# Altium footprint library TwoLayerDriverPcbLib.PcbLib: 13 footprints
Each footprint in its own frame and in the unit in brackets; x right, y up, seen from the top. Pads: shape width x height; smd on the part's side, far side on the other; paste and mask are expansions set on the pad; w line width, h text height; cw(c..) or ccw(c..) is an arc to the next point about the centre after c.
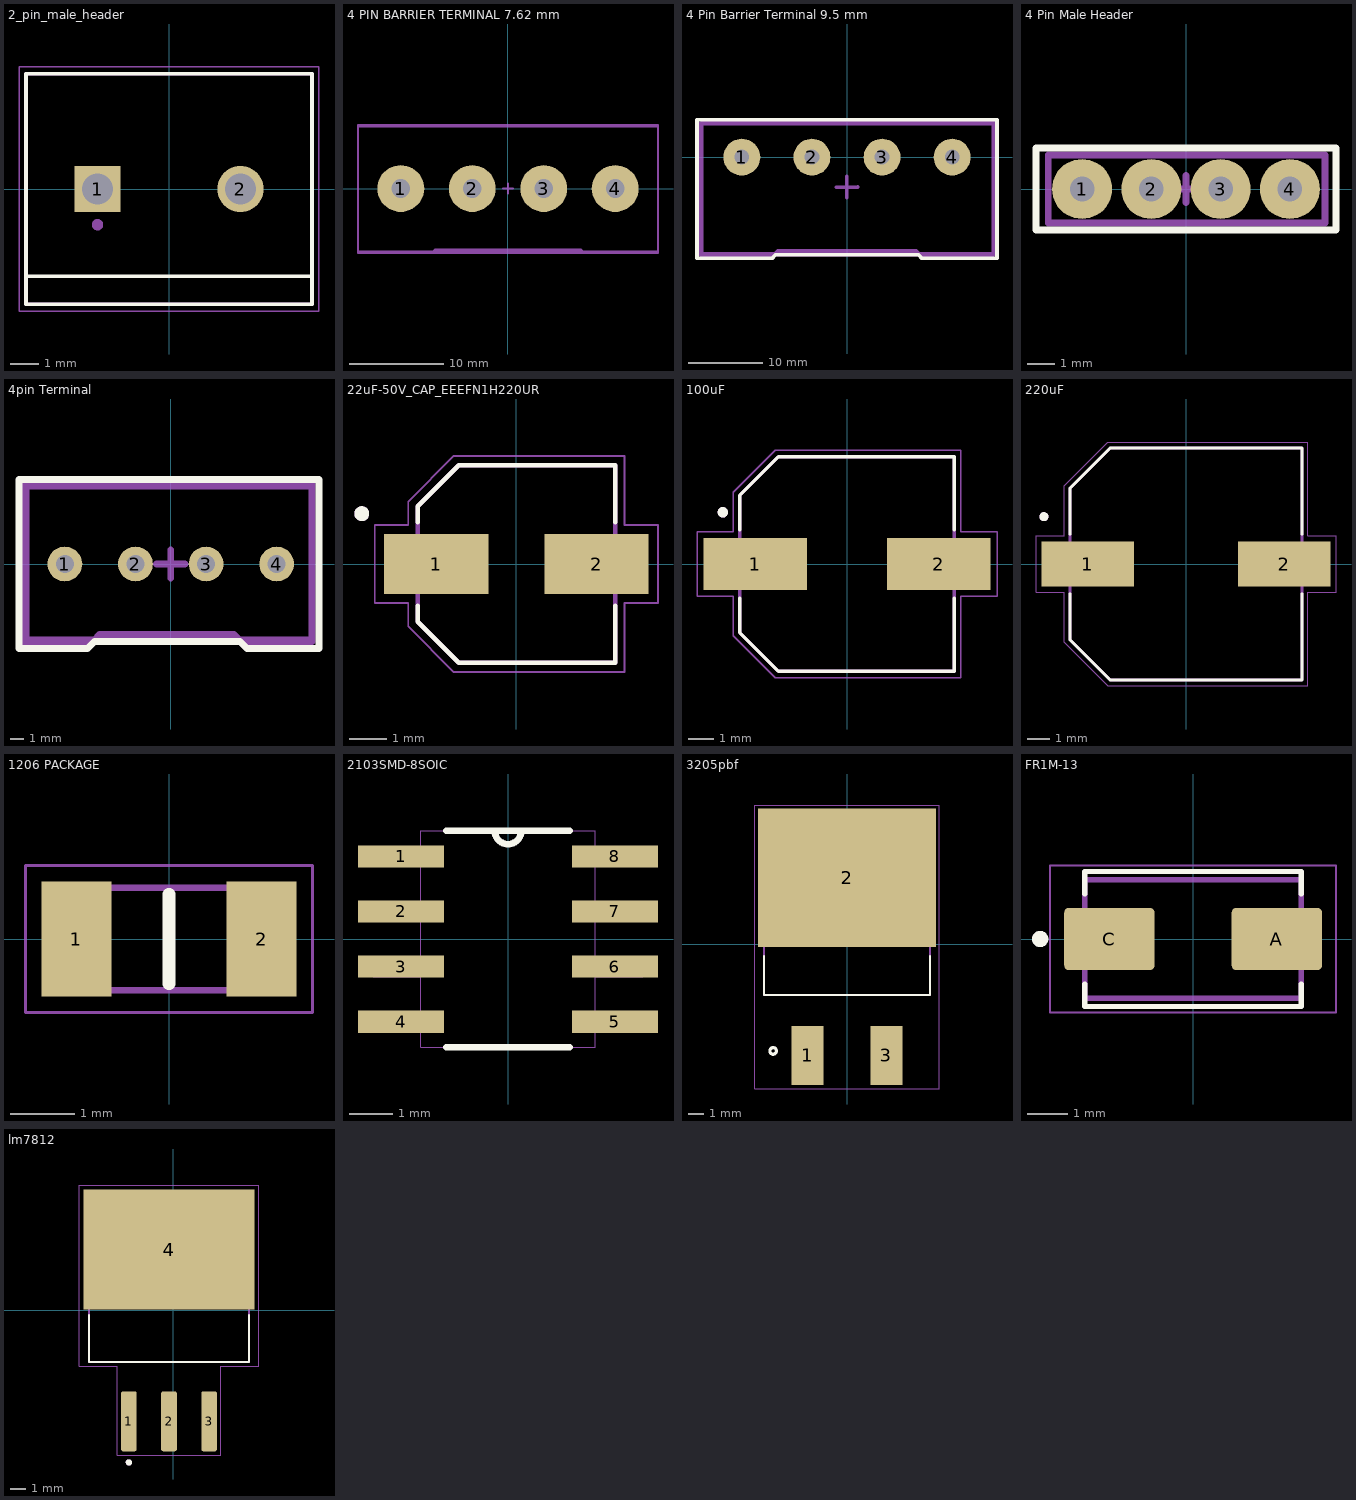
[diagram p0: the footprints below, top view; thin cyan lines are the x and y axes]

## 2_pin_male_header [mm] "TE_282837-2"
pads (2):
  rect 1.65x1.65 hole 1.1: 1(-2.54,0)
  round 1.65 hole 1.1: 2(2.54,0)
Top Overlay:
  lines w0.127: -5.08,-3.1 -5.08,-4.1 5.08,-4.1 5.08,-3.1 ; -5.08,-3.1 -5.08,4.1 5.08,4.1 5.08,-3.1 ; -5.08,-3.1 5.08,-3.1
Mechanical 13:
  circle w0.2: c-2.54,-1.27 r0.1
  lines w0.127: -5.08,-4.1 5.08,-4.1 5.08,4.1 -5.08,4.1 -5.08,-4.1
Mechanical 15:
  lines w0.05: -5.33,-4.35 5.33,-4.35 5.33,4.35 -5.33,4.35 -5.33,-4.35
3D body "2_PÝ_MALE_HEADER.STEP": height 9.79, standoff -3.71, extent -5.38,-4.136 5.38,4.064

## 4 PIN BARRIER TERMINAL 7.62 mm [mm]
pads (4):
  round 5 hole 2 mask+0.102: 1(-11.43,0) 2(-3.81,0) 3(3.81,0) 4(11.43,0)
Top 3D Body:
  lines w0.254: -16,-6.75 -16,6.75 16,6.75 16,-6.75 8,-6.75 7.75,-6.5 -7.75,-6.5 -8,-6.75 -16,-6.75
Top Component Center:
  lines w0.254: -0.5,0 0.5,0 ; 0,-0.5 0,0.5 ; -16,-6.75 -8,-6.75 8,-6.75 16,-6.75 16,6.75 -16,6.75 -16,-6.75
Top Designator:
  lines w0.254: -15.997,-6.845 -7.997,-6.845 8.003,-6.845 16.003,-6.845 16.003,6.655 -15.997,6.655 -15.997,-6.845
  text ".Designator" at -2.246,-0.488 h1.52
3D body "X977B04-7.62.step": height 14, standoff -5.5, extent -16.09,-6.75 16.09,6.75

## 4 Pin Barrier Terminal 9.5 mm [mm]
pads (4):
  round 5 hole 2 mask+0.102: 1(-14.25,0) 2(-4.75,0) 3(4.75,0) 4(14.25,0)
Top Overlay:
  lines w0.5: -20.32,-13.716 -20.32,5.08 20.32,5.08 20.32,-13.716 10.16,-13.716 9.652,-13.208 -9.652,-13.208 -10.16,-13.716 -20.32,-13.716
Top 3D Body:
  lines w0.5: -19.825,-13.25 -9.912,-13.25 -9.363,-12.7 9.363,-12.7 9.912,-13.25 19.825,-13.25 19.825,4.525 -19.825,4.525 -19.825,-13.25
Top Component Center:
  lines w0.5: -1.45,-4.07 1.45,-4.058 ; -0.045,-2.579 -0.033,-5.479 ; -19.7,-13.125 -19.7,4.65 19.95,4.65 19.95,-13.125 -19.7,-13.125
Top Designator:
  lines w0.5: -19.838,-13.208 -19.838,4.567 19.812,4.567 19.812,-13.208 -19.838,-13.208
  text ".Designator" at -3.81,-4.826 h1.52
3D body "4pin Barrier Terminal.stp": height 16.26, standoff -4.69, extent -19.825,-13.25 19.825,4.53

## 4 Pin Male Header [mm]
pads (4):
  round 2.2 hole 0.9 mask+0.051: 1(-3.81,0) 2(-1.27,0) 3(1.27,0) 4(3.81,0)
Top Overlay:
  lines w0.25: -5.5,-1.5 -5.5,1.5 5.5,1.5 5.5,-1.5 -5.5,-1.5
Top 3D Body:
  lines w0.25: -5.05,-1.25 5.1,-1.25 5.1,1.25 -5.05,1.25 -5.05,-1.25
Top Component Center:
  lines w0.25: -0.5,0 0.5,0 ; 0,-0.5 0,0.5 ; -5.05,-1.25 5.1,-1.25 5.1,1.25 -5.05,1.25 -5.05,-1.25
Top Designator:
  lines w0.25: -5.05,-1.25 -5.05,1.25 5.1,1.25 5.1,-1.25 -5.05,-1.25
  text ".Designator" at -1.246,-0.413 h1
3D body "1x4 Male Pin Header.STEP": height 10.54, standoff -3, extent -5.07,-1.25 5.095,1.25

## 4pin Terminal [mm]
pads (4):
  round 2.5 hole 1.3 mask+0.051: 1(-7.62,0) 2(-2.54,0) 3(2.54,0) 4(7.62,0)
Top Overlay:
  lines w0.5: -10.922,-6.096 -10.922,6.096 10.668,6.096 10.668,-6.096 5.499,-6.096 4.991,-5.588 -5.499,-5.588 -6.007,-6.096 -10.922,-6.096
Top 3D Body:
  lines w0.5: -10.414,-5.461 -10.414,5.74 10.16,5.74 10.16,-5.461 4.94,-5.461 4.559,-5.08 -5.118,-5.08 -5.499,-5.461 -10.414,-5.461
Top Component Center:
  lines w0.5: -1.016,0 1.016,0 ; 0,-1.016 0,1.016 ; -10.414,-5.459 -10.414,5.742 10.147,5.742 10.147,-5.459 -10.414,-5.459
Top Designator:
  lines w0.5: -10.719,-5.588 -10.719,5.613 10.16,5.613 10.16,-5.588 -10.719,-5.588
  text ".Designator" at -2.794,-0.762 h1.52
3D body "klemens.stp": height 19.34, standoff -3.96, extent 0.062,-5.739 10.792,5.461
3D body "klemens.stp": height 19.34, standoff -3.96, extent -10.16,-5.739 0.57,5.461

## 22uF-50V_CAP_EEEFN1H220UR [mm] "22uF 50V electrolytic smd kondansator"
pads (2):
  rect 2.8x1.6 smd: 1(-2.15,0) 2(2.15,0)
Top Overlay:
  circle w0.2: c-4.15,1.35 r0.1
  lines w0.127: -2.65,-1.12 -2.65,-1.55 -1.55,-2.65 2.65,-2.65 2.65,-1.12 ; -2.65,1.12 -2.65,1.55 -1.55,2.65 2.65,2.65 2.65,1.12
Mechanical 13:
  circle w0.2: c-4.15,1.35 r0.1
  lines w0.127: -2.65,-1.55 -1.55,-2.65 2.65,-2.65 2.65,2.65 -1.55,2.65 -2.65,1.55 -2.65,-1.55
Mechanical 15:
  lines w0.05: -3.8,-1.05 -3.8,1.05 -2.9,1.05 -2.9,1.675 -1.675,2.9 2.9,2.9 2.9,1.05 3.8,1.05 3.8,-1.05 2.9,-1.05 2.9,-2.9 -1.675,-2.9 -2.9,-1.675 -2.9,-1.05 -3.8,-1.05
3D body "step_temp.STEP": height 5.8, standoff 0, extent -3,-2.65 3,2.65

## 100uF [mm] "100uF 50V capacitor"
pads (2):
  rect 4x2 smd: 1(-3.55,0) 2(3.55,0)
Top Overlay:
  circle w0.2: c-4.8,2 r0.1
  lines w0.127: -4.15,-1.32 -4.15,-2.65 -2.65,-4.15 4.15,-4.15 4.15,-1.32 ; -4.15,1.32 -4.15,2.65 -2.65,4.15 4.15,4.15 4.15,1.32
Mechanical 13:
  circle w0.2: c-4.8,2 r0.1
  lines w0.127: -4.15,-2.65 -2.65,-4.15 4.15,-4.15 4.15,4.15 -2.65,4.15 -4.15,2.65 -4.15,-2.65
Mechanical 15:
  lines w0.05: -5.8,-1.25 -5.8,1.25 -4.4,1.25 -4.4,2.775 -2.775,4.4 4.4,4.4 4.4,1.25 5.8,1.25 5.8,-1.25 4.4,-1.25 4.4,-4.4 -2.775,-4.4 -4.4,-2.775 -4.4,-1.25 -5.8,-1.25
3D body "step_temp.STEP": height 10.2, standoff 0, extent -4.85,-4.15 4.85,4.15

## 220uF [mm] "220uF_50V_smd_capacitor"
pads (2):
  rect 4.1x2 smd: 1(-4.35,0) 2(4.35,0)
Top Overlay:
  circle w0.2: c-6.3,2.1 r0.1
  lines w0.127: -5.15,-1.32 -5.15,-3.35 -3.35,-5.15 5.15,-5.15 5.15,-1.32 ; -5.15,1.32 -5.15,3.35 -3.35,5.15 5.15,5.15 5.15,1.32
Mechanical 13:
  circle w0.2: c-6.3,2.1 r0.1
  lines w0.127: -5.15,-3.35 -5.15,3.35 -3.35,5.15 5.15,5.15 5.15,-5.15 -3.35,-5.15 -5.15,-3.35
Mechanical 15:
  lines w0.05: -6.65,-1.25 -5.4,-1.25 -5.4,-3.475 -3.475,-5.4 5.4,-5.4 5.4,-1.25 6.65,-1.25 6.65,1.25 5.4,1.25 5.4,5.4 -3.475,5.4 -5.4,3.475 -5.4,1.25 -6.65,1.25 -6.65,-1.25
3D body "step_temp.STEP": height 10.19, standoff -0.01, extent -5.85,-5.15 5.85,5.15

## 1206 PACKAGE [mm] "PACKAGE FOR RESISTOR AND CAPACITOR"
pads (2):
  rect 1.1x1.8 smd: 1(-1.45,0) 2(1.45,0)
Top Overlay:
  lines w0.2: 0,-0.7 0,0.7
Mechanical 15:
  lines w0.1: -1.55,-0.8 -1.55,0.8 1.55,0.8 1.55,-0.8 -1.55,-0.8
Mechanical 20:
  lines w0.05: -2.25,-1.15 -2.25,1.15 2.25,1.15 2.25,-1.15 -2.25,-1.15
3D body "RC1206JR-0713RL.STEP": height 0.65, standoff 0, extent -1.423,-0.8 1.677,0.8

## 2103SMD-8SOIC [mil]
pads (8):
  rect 78x20 smd: 1(-97,75) 2(-97,25) 3(-97,-25) 4(-97,-75) 5(97,-75) 6(97,-25) 7(97,25) 8(97,75)
Top Overlay:
  lines w6: -56,-98 56,-98 ; -56,98 -12,98 ; 56,98 12,98 ; -12,98 ccw(c0,98) 12,98 ; -12,98 12,98
Mechanical 13:
  lines w0: -12,98 ccw(c0,98) 12,98 ; -12,98 12,98 ; -12,98 -79,98 -79,-98 79,-98 79,98 12,98 ; -122,-84 -122,-66 -79,-66 -79,-84 -122,-84 ; -122,-34 -122,-16 -79,-16 -79,-34 -122,-34 ; -122,16 -122,34 -79,34 -79,16 -122,16 ; -122,66 -122,84 -79,84 -79,66 -122,66 ; 79,-84 79,-66 122,-66 122,-84 79,-84 ; 79,-34 79,-16 122,-16 122,-34 79,-34 ; 79,16 79,34 122,34 122,16 79,16 ; 79,66 79,84 122,84 122,66 79,66
3D body "IR2103SPBF.STEP": height 68.9, standoff 0, extent -118.11,-98.43 118.11,98.43

## 3205pbf [mm]
pads (3):
  rect 2.08x3.81 smd: 1(-2.54,-7.14) 3(2.54,-7.14)
  rect 11.43x8.89 smd: 2(0,4.29)
Top Overlay:
  circle w0.2: c-4.75,-6.85 r0.212
  lines w0.127: -5.34,-0.74 -5.34,-3.24 5.34,-3.24 5.34,-0.74
Mechanical 13:
  lines w0.127: -5.34,-3.24 -5.34,6.42 5.34,6.42 5.34,-3.24 -5.34,-3.24
Mechanical 15:
  lines w0.05: -5.95,-9.3 -5.95,8.95 5.95,8.95 5.95,-9.3 -5.95,-9.3
3D body "IRF3205SPBF.STEP": height 4.83, standoff -0.25, extent -5.08,-7.62 5.08,7.62

## FR1M-13 [mm] "1000V 1A DIODE"
pads (2):
  rrect15% 2.21x1.53 smd: A(2.05,0) C(-2.05,0)
Top Overlay:
  circle w0.2: c-3.746,0 r0.1
  lines w0.127: -2.65,-1.1 -2.65,-1.651 2.65,-1.651 2.65,-1.1 ; -2.65,1.1 -2.65,1.651 2.65,1.651 2.65,1.1
Mechanical 13:
  lines w0.127: -2.65,-1.45 2.65,-1.45 2.65,1.45 -2.65,1.45 -2.65,-1.45
Mechanical 15:
  lines w0.05: -3.5,-1.8 -3.5,1.8 3.5,1.8 3.5,-1.8 -3.5,-1.8
3D body "FR1M-13.STEP": height 2.5, standoff 0, extent -2.648,-1.81 2.648,1.81

## lm7812 [mm]
pads (4):
  rrect25% 0.99x3.79 smd: 1(-2.794,-7.035) 2(-0.254,-7.035) 3(2.286,-7.035)
  rect 10.84x7.62 smd paste-6: 4(-0.254,3.845)
Top Overlay:
  circle w0.2: c-2.794,-9.635 r0.1
  lines w0.127: -5.334,-0.285 -5.334,-3.283 4.826,-3.283 4.826,-0.285
Top Paste:
  region: -0.524,4.57 -0.524,3.12 -1.784,3.12 -1.784,4.57
  region: -2.324,4.57 -2.324,3.12 -3.584,3.12 -3.584,4.57
  region: -4.124,4.57 -4.124,3.12 -5.384,3.12 -5.384,4.57
  region: 1.276,4.57 1.276,3.12 0.016,3.12 0.016,4.57
  region: 3.076,4.57 3.076,3.12 1.816,3.12 1.816,4.57
  region: 4.876,4.57 4.876,3.12 3.616,3.12 3.616,4.57
  region: -0.524,7.11 -0.524,5.66 -1.784,5.66 -1.784,7.11
  region: -2.324,7.11 -2.324,5.66 -3.584,5.66 -3.584,7.11
  region: -4.124,7.11 -4.124,5.66 -5.384,5.66 -5.384,7.11
  region: 1.276,7.11 1.276,5.66 0.016,5.66 0.016,7.11
  region: 3.076,7.11 3.076,5.66 1.816,5.66 1.816,7.11
  region: 4.876,7.11 4.876,5.66 3.616,5.66 3.616,7.11
  region: -0.524,2.03 -0.524,0.58 -1.784,0.58 -1.784,2.03
  region: -2.324,2.03 -2.324,0.58 -3.584,0.58 -3.584,2.03
  region: -4.124,2.03 -4.124,0.58 -5.384,0.58 -5.384,2.03
  region: 1.276,2.03 1.276,0.58 0.016,0.58 0.016,2.03
  region: 3.076,2.03 3.076,0.58 1.816,0.58 1.816,2.03
  region: 4.876,2.03 4.876,0.58 3.616,0.58 3.616,2.03
Mechanical 13:
  circle w0.2: c-2.794,-9.635 r0.1
  lines w0.127: -5.334,-3.283 4.826,-3.283 4.826,5.738 -5.334,5.738 -5.334,-3.283
Mechanical 15:
  lines w0.05: -5.924,-3.533 -5.924,7.905 5.416,7.905 5.416,-3.533 3.031,-3.533 3.031,-9.18 -3.539,-9.18 -3.539,-3.533 -5.924,-3.533
3D body "lm7812.STEP": height 4.65, standoff -0.15, extent -5.33,-7.425 4.83,6.926